# EAGLE library part ICM-42688-P (library ICM-42688-P)
Accelerometer, Gyroscope, 6 Axis Sensor Output
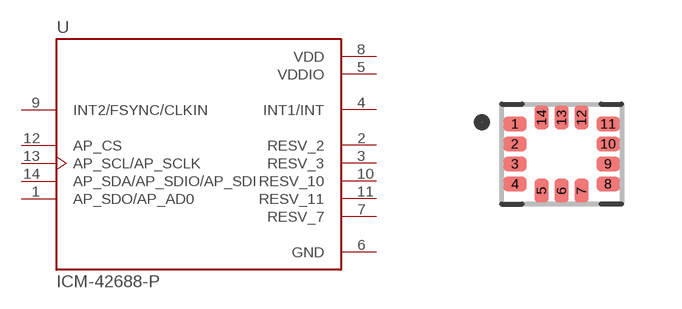
[diagram p0: symbol with the pads of PQFN50P300X250X97-14N; footprint PQFN50P300X250X97-14N]

Designator prefix U

## ICM-42688-P (Description: Accelerometer, Gyroscope, 6 Axis Sensor Output; Digi-Key_Part_Number: 1428-ICM-42688-PCT-ND; MF: TDK InvenSense; MP: ICM-42688-P; Package: Package TDK - InvenSense)  [PQFN50P300X250X97-14N]
1  AP_SDO/AP_AD0
2  RESV_2  pas
3  RESV_3  pas
4  INT1/INT  out
5  VDDIO  pwr
6  GND  pwr
7  RESV_7  pas
8  VDD  pwr
9  INT2/FSYNC/CLKIN
10  RESV_10  pas
11  RESV_11  pas
12  AP_CS  in
13  AP_SCL/AP_SCLK  in
14  AP_SDA/AP_SDIO/AP_SDI

## Footprint PQFN50P300X250X97-14N (pad centres in mm)
smd 0.59 x 0.35: 1 -1.165,0.75; 2 -1.165,0.25; 3 -1.165,-0.25; 4 -1.165,-0.75; 8 1.165,-0.75; 9 1.165,-0.25; 10 1.165,0.25; 11 1.165,0.75
smd 0.35 x 0.59: 5 -0.5,-0.915; 6 0,-0.915; 7 0.5,-0.915; 12 0.5,0.915; 13 0,0.915; 14 -0.5,0.915